# Altium integrated library DIP-LED-GREEN-VAPOROUS-GREEN_2P-D10MM_.IntLib: 1 symbol
Pins are listed as number, name and electrical type; pins without a type are passive.

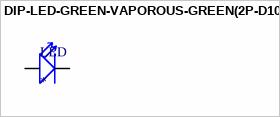
[diagram p0: symbol DIP-LED-GREEN-VAPOROUS-GREEN(2P-D10MM)]

## DIP-LED-GREEN-VAPOROUS-GREEN(2P-D10MM)
designator LED
DIP LED Green-Vaporous Green;; MF: Chengguangxing; MP: G1004DCMM; Package: None; Value: *; SnapEDA_Link: https://www.snapeda.com/parts/G1004DCMM/Chengguangxing/view-part/106389/?ref=snap; Availability: Unavailable; Price: None
footprint LED2-2.54-D10MM
pins: NEG, POS